# EAGLE library part NA (library omcRelay)
Fujitsu NA - Minature Relay - 2 Poles - 1 to 2A 2-pole max. Voltage: 125VAC / 30VDC max. Power: 62VA / 30W min load: 0.01mA, 10mVDC slim type relay for high density mounting UL, CSA recognized Datasheet Fujitsu <https://www.fujitsu.com/downloads/MICRO/fcai/relays/na.pdf> Reichelt <https://cdn-reichelt.de/documents/datenblatt/C300/RELAIS-NA.pdf>
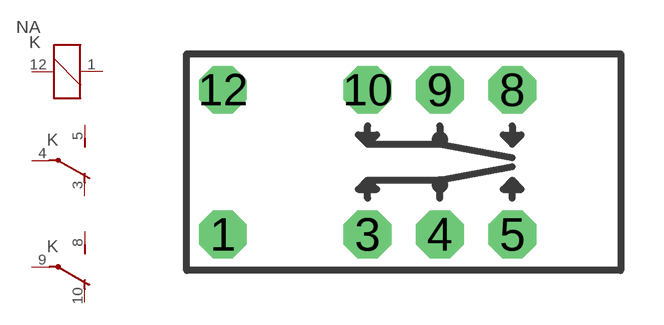
[diagram p3: symbol with the pads of THT_5M08M_5M08M_2M54M; footprint THT_5M08M_5M08M_2M54M]

Designator prefix K; gates G$1=K G$2=U G$3=U

## NA-12VDC (DIST#REICHELT#: NA 12W K; VALUE: NA-12V; VENDOR#: Fujitsu,NAA-12W-K), NA-24VDC (DIST#REICHELT#: NA 24W K; VALUE: NA-24V; VENDOR#: Fujitsu,NAA-24W-K), NA-5VDC (DIST#REICHELT#: NA 05W K; VALUE: NA-5V; VENDOR#: Fujitsu,NAA-05W-K)  [THT_5M08M_5M08M_2M54M]
1  G$1:2  pas
3  G$3:O  pas
4  G$3:P  pas
5  G$3:S  pas
8  G$2:S  pas
9  G$2:P  pas
10  G$2:O  pas
12  G$1:1  pas

## Footprint THT_5M08M_5M08M_2M54M (pad centres in mm)
THT Relay Mechanical: row switch-over contact-to-contact distance: 2.54mm switch-over contact-to-coil distance: 5.08mm row to row distance: 5.08mm Electrical: Terminal: 8 Change-over contacts: 2 Used by: Fujitsu: NV
drill 0.8 pad 1.676 octagon: 1 0,0; 3 5.08,0; 4 7.62,0; 5 10.16,0; 8 10.16,5.08; 9 7.62,5.08; 10 5.08,5.08; 12 0,5.08